# EAGLE library part DIN-8 (library din8)
Female CONNECTOR 8 pins with shield, horizontal (DIN 41524)
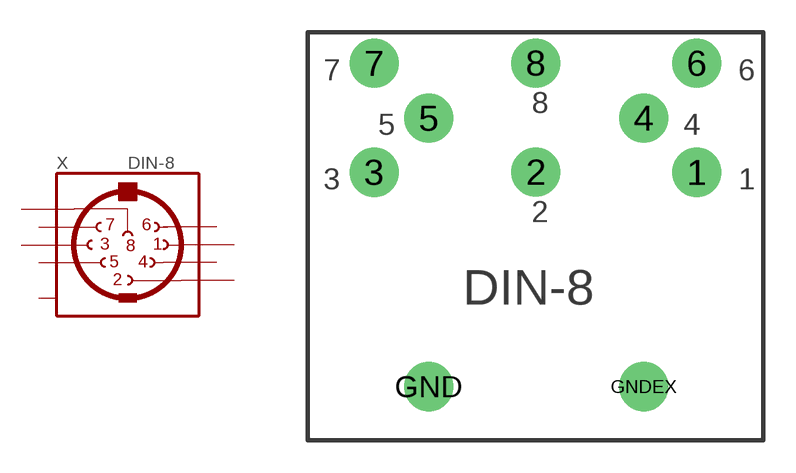
[diagram p0: symbol with the pads of DIN8; footprint DIN8]

Designator prefix X

## DIN-8  [DIN8]
1  1  pas
2  2  pas
3  3  pas
4  4  pas
5  5  pas
6  6  pas
7  7  pas
8  8  pas
GND  GND  nc

## Footprint DIN8 (pad centres in mm)
drill 1.4 pad 2.286: 1 7.94,3.6; 2 0.46,3.61; 3 -7.07,3.6; 4 5.47,6.13; 5 -4.53,6.12; 6 7.94,8.68; 7 -7.07,8.68; 8 0.46,8.69; GND -4.53,-6.382; GNDEX 5.48,-6.382